# Altium schematic symbol library NJL7502L.SchLib: 1 symbol
Pins are listed as number, name and electrical type; pins without a type are passive.

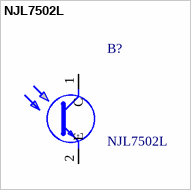
[diagram p0: symbol NJL7502L]

## NJL7502L
designator B?
Ambient Light Sensors Ambient Light Sensor -40C to 85C ,70V,560 nm V,100 nA; Manufacturer_Name: Nisshinbo; Geometry.Height: 5.5mm; RS Part Number: *; RS Price/Stock: *; Manufacturer_Part_Number: NJL7502L; Datasheet Link: https://www.nisshinbo-microdevices.co.jp/en/pdf/datasheet/NJL7502L_E.pdf
footprint NJL7502L
pins: 1 C, 2 E